# Altium footprint library Passives.PcbLib: 62 footprints (part 3 of 4)
Each footprint in its own frame and in the unit in brackets; x right, y up, seen from the top. Pads: shape width x height; smd on the part's side, far side on the other; paste and mask are expansions set on the pad; w line width, h text height; cw(c..) or ccw(c..) is an arc to the next point about the centre after c.
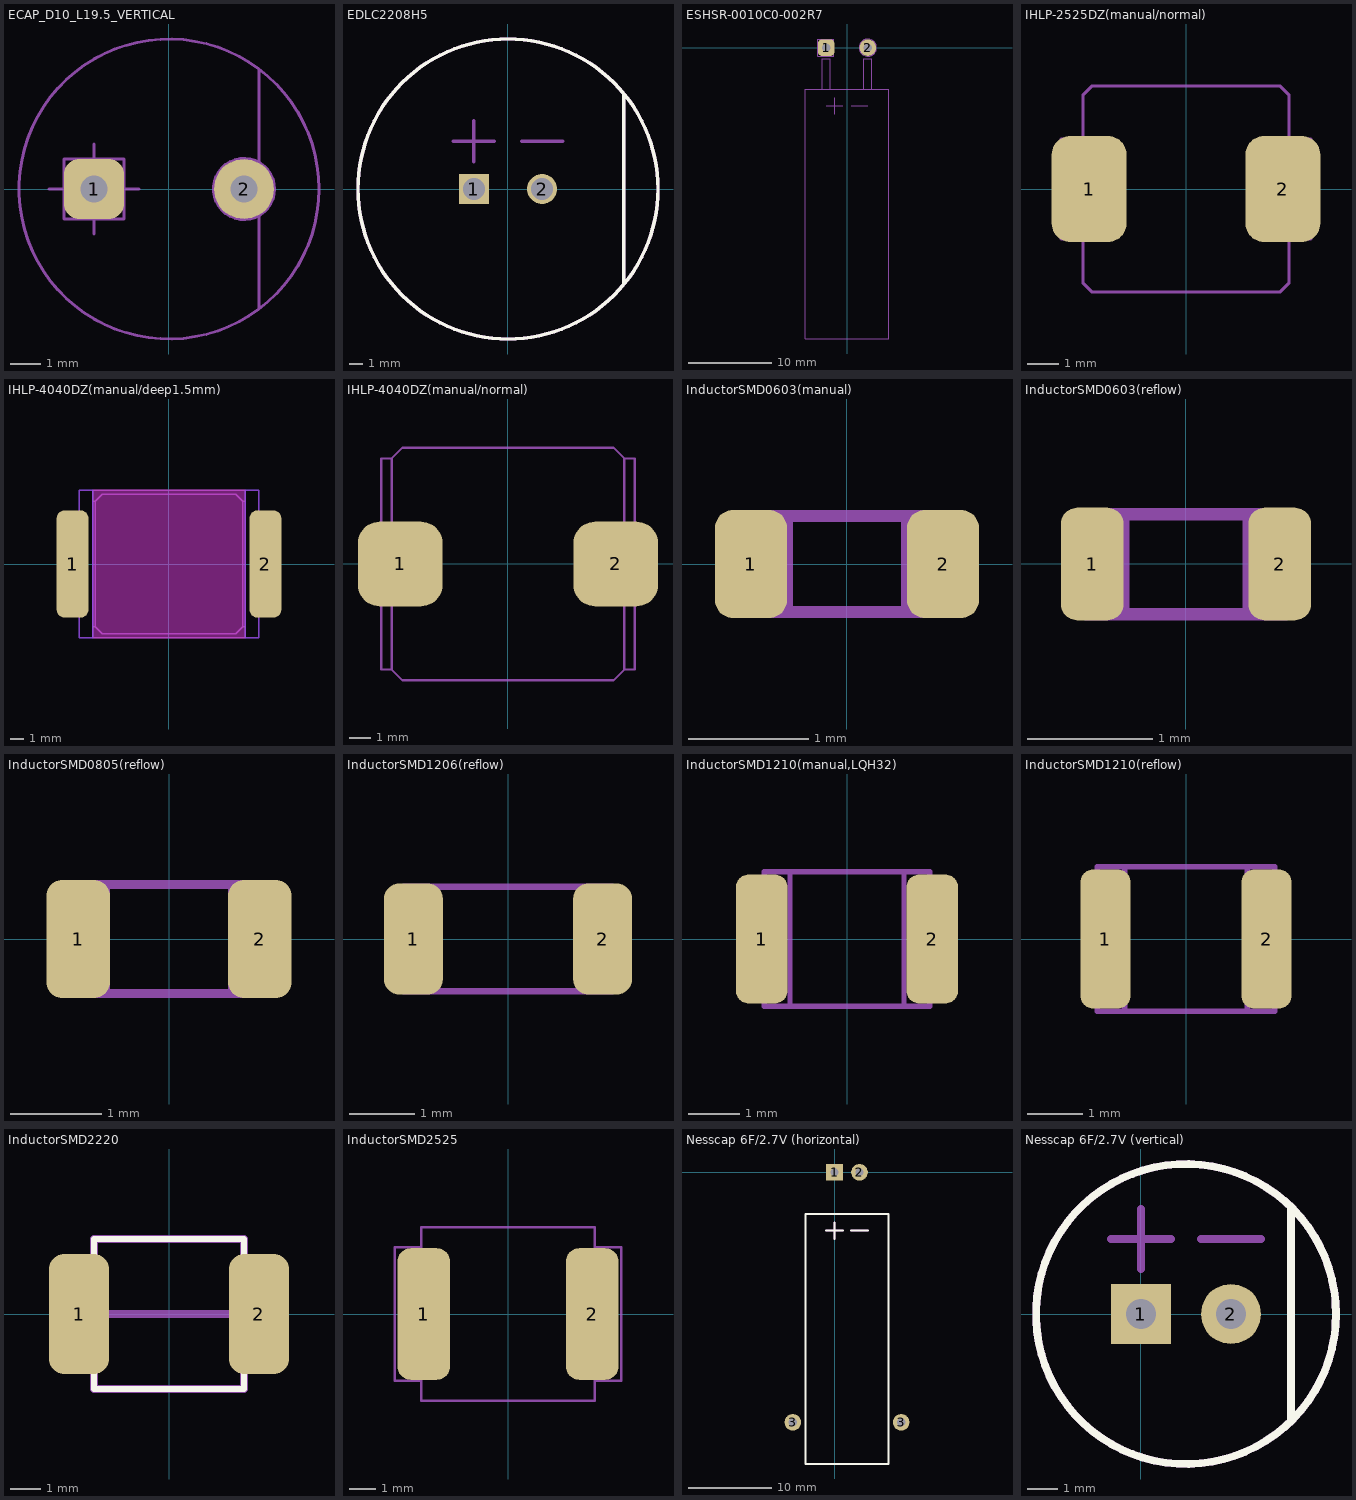
[diagram p2: the footprints below, top view; thin cyan lines are the x and y axes]

## ECAP_D10_L19.5_VERTICAL [mm]
height 19.5
pads (2):
  rrect50% 2x2 hole 0.9: 1(-2.5,0)
  round 2 hole 0.9: 2(2.5,0)
Mechanical 1:
  circle w0.1: c0,0 r5
  lines w0.1: -4,0 -1,0 ; -2.5,-1.5 -2.5,1.5 ; 3,-4 3,4
Mechanical 4:
  circle w0.1: c2.5,0 r1.02
  lines w0.1: -3.5,-1 -3.5,1 -1.5,1 -1.5,-1 -3.5,-1
Mechanical 13:
  text ".Designator" at -2,1.5 h1
Mechanical 14:
  text ".Comment" at -2,1.5 h1
3D body: height 19.5, standoff 0, extent -4.98,-5 4.98,4.98
3D body: height 19.6, standoff 19, extent 3.5,-3 4.5,3

## EDLC2208H5 [mm]
pads (2):
  rect 2.2x2.2 hole 1.6: 1(-2.5,0)
  round 2.2 hole 1.6: 2(2.5,0)
Top Overlay:
  circle w0.254: c0,0 r11
  lines w0.254: 8.5,-7 8.5,7
Mechanical 1:
  circle w0.254: c0,0 r11
  lines w0.254: -4,3.5 -1,3.5 ; -2.5,2 -2.5,5 ; 1,3.5 4,3.5 ; 8.5,-7 8.5,7
3D body: height 9, standoff 0.5, extent -11,-11 10.913,10.957

## ESHSR-0010C0-002R7 [mm]
pads (2):
  rrect50% 2x2 hole 1: 1(-2.5,0)
  round 2 hole 1: 2(2.5,0)
Mechanical 1:
  circle w0.1: c2.48,0 r1.02
  lines w0.1: -3,-5 -3,-1.3 -2,-1.3 -2,-5 ; -2.5,-7 -0.5,-7 ; -1.5,-8 -1.5,-6 ; 0.5,-7 2.5,-7 ; 2,-5 2,-1.3 3,-1.3 3,-5 ; -5,-35 -5,-5 5,-5 5,-35 -5,-35 ; -3.5,-1 -1.6,-1 -1.6,1 -3.5,1 -3.5,-1
Mechanical 4:
  circle w0.1: c2.5,0 r1.044
  lines w0.1: -3.5,-1 -1.6,-1 -1.6,1 -3.5,1 -3.5,-1
3D body: height 6, standoff 4, extent -5.1,-35.1 -4,-4.9
3D body: height 9.99, standoff 0.01, extent -5,-35 4.961,-5

## IHLP-2525DZ(manual/normal) [mm]
pads (2):
  rrect50% 2.4x3.4 smd: 1(-3.1,0) 2(3.1,0)
Mechanical 1:
  lines w0.1: -3.3,-1.6 -4,-1.6 -4,1.5 -4,1.6 -3.3,1.6 ; 3.3,-1.6 4,-1.6 4,1.6 3.3,1.6 ; -3.3,-3 -3,-3.3 3,-3.3 3.3,-3 3.3,3 3,3.3 -3,3.3 -3.3,3 -3.3,-3
Mechanical 13:
  text ".Designator" at -2.5,4.1 h1
3D body: height 3, standoff 0.5, extent -3.3,-3.3 3.3,3.3
3D body: height 1.5, standoff 0, extent -3.6,-1.6 -2,1.6
3D body: height 1.5, standoff 0, extent 2,-1.6 3.6,1.6

## IHLP-4040DZ(manual/deep1.5mm) [mm]
pads (2):
  rrect50% 2.4x8 smd: 1(-7.2,0) 2(7.2,0)
Bottom Layer keep-out:
  lines w0.1: -6.7,-5.5 -5.7,-5.5 -5.7,5.5 -6.7,5.5 -6.7,-5.5 ; 5.7,-5.5 5.7,5.5 6.7,5.5 6.7,-5.5 5.7,-5.5
Keep-Out Layer:
  board cut-out: -5.7,5.5 5.7,5.5 5.7,-5.5 -5.7,-5.5
  lines w0.1: -5.7,-5.5 5.7,-5.5 5.7,5.5 -5.7,5.5 -5.7,-5.5
Mechanical 1:
  lines w0.1: -5.5,-4.7 -5.5,4.7 ; -5.5,-4.7 -5,-5.2 5,-5.2 5.5,-4.7 ; -5.5,-4.7 -5.7,-4.7 -5.7,4.7 -5.5,4.7 ; -5.5,4.7 -5,5.2 5,5.2 5.5,4.7 ; 5.5,-4.7 5.5,4.7 ; 5.5,-4.7 5.7,-4.7 5.7,4.7 5.5,4.7
Mechanical 4:
  lines w0.1: -5.7,-5.5 5.7,-5.5 5.7,5.5 -5.7,5.5 -5.7,-5.5
Mechanical 13:
  text ".Designator" at -2.5,4.1 h1
3D body: height 2, standoff 0, extent 5.5,-4 5.7,4
3D body: height 2, standoff 0, extent -5.7,-4 -5.5,4
3D body: height 2.5, standoff -1, extent -5.5,-5.2 5.5,5.2
3D body: height 2, standoff -1.5, extent -5.7,-2 -3,2
3D body: height 2, standoff -1.5, extent 3,-2 5.7,2

## IHLP-4040DZ(manual/normal) [mm]
pads (2):
  rrect50% 4x4 smd: 1(-5.1,0) 2(5.1,0)
Mechanical 1:
  lines w0.1: -6,-5 -6,5 -5.5,5 ; -6,-5 -6,-5 ; -6,-5 -5.5,-5 ; -5.5,-5 -5,-5.5 5,-5.5 5.5,-5 ; -5.5,-5 -5.5,5 ; -5.5,5 -5,5.5 5,5.5 5.5,5 ; 5.5,-5 6,-5 6,5 5.5,5 ; 5.5,-5 5.5,5
Mechanical 13:
  text ".Designator" at -2.5,4.1 h1
3D body: height 2, standoff 0, extent 3,-2 6,2
3D body: height 2, standoff 0, extent -6,-2 -3,2
3D body: height 4, standoff 0.5, extent -5.5,-5.5 5.5,5.5

## InductorSMD0603(manual) [mm]
height 0.45
pads (2):
  rrect50% 0.6x0.9 smd: 1(-0.8,0) 2(0.8,0)
Mechanical 1:
  lines w0.1: -0.5,-0.4 -0.5,0.4 ; 0.5,-0.4 0.5,0.4 ; -0.8,-0.4 -0.8,0.4 0.8,0.4 0.8,-0.4 -0.8,-0.4
Mechanical 13:
  text ".Designator" at -0.9,-0.3 h1
3D body: height 0.45, standoff 0, extent -0.8,-0.4 -0.6,0.4
3D body: height 0.45, standoff 0, extent 0.6,-0.4 0.8,0.4
3D body: height 0.45, standoff 0, extent -0.6,-0.4 0.6,0.4

## InductorSMD0603(reflow) [mm]
height 0.45
pads (2):
  rrect50% 0.5x0.9 smd: 1(-0.75,0) 2(0.75,0)
Mechanical 1:
  lines w0.1: -0.5,-0.4 -0.5,0.4 ; 0.5,-0.4 0.5,0.4 ; -0.8,-0.4 0.8,-0.4 0.8,0.4 -0.8,0.4 -0.8,-0.4
Mechanical 13:
  text ".Designator" at -0.9,0.7 h1
3D body: height 0.45, standoff 0, extent -0.8,-0.4 -0.5,0.4
3D body: height 0.45, standoff 0, extent -0.5,-0.4 0.5,0.4
3D body: height 0.45, standoff 0, extent 0.5,-0.4 0.8,0.4

## InductorSMD0805(reflow) [mm]
height 0.45
pads (2):
  rrect50% 0.7x1.3 smd: 1(-1,0) 2(1,0)
Mechanical 1:
  lines w0.1: -0.7,-0.6 -0.7,0.6 ; 0.7,-0.6 0.7,0.6 ; -1,-0.6 -1,0.6 1,0.6 1,-0.6 -1,-0.6
Mechanical 13:
  text ".Designator" at -1.7,1.5 h1
3D body: height 0.6, standoff 0, extent -1,-0.65 1,0.65

## InductorSMD1206(reflow) [mm]
height 0.6
pads (2):
  rrect50% 0.9x1.7 smd: 1(-1.45,0) 2(1.45,0)
Mechanical 1:
  lines w0.1: -1.1,-0.8 -1.1,0.8 ; 1.1,-0.8 1.1,0.8 ; -1.6,-0.8 1.6,-0.8 1.6,0.8 -1.6,0.8 -1.6,-0.8
Mechanical 13:
  text ".Designator" at -1.3,1.8 h1
3D body: height 0.6, standoff 0, extent -1.6,-0.8 1.6,0.8

## InductorSMD1210(manual,LQH32) [mm]
height 0.6
pads (2):
  rrect50% 1x2.5 smd: 1(-1.65,0) 2(1.65,0)
Mechanical 1:
  lines w0.1: -1.1,-1.3 -1.1,1.3 ; 1.1,-1.3 1.1,1.3 ; -1.6,-1.3 1.6,-1.3 1.6,1.3 -1.6,1.3 -1.6,-1.3
Mechanical 13:
  text ".Designator" at 0.4,-1 h1
Mechanical 14:
  text ".Comment" at 0.3,-1 h1
3D body: height 1.5, standoff 0.5, extent -1,-1 1,1
3D body: height 0.5, standoff 0, extent -1.4,-1.3 1.4,1.3
3D body: height 0.5, standoff 0, extent -1.6,-1.3 -1.4,1.3
3D body: height 0.5, standoff 0, extent 1.4,-1.3 1.6,1.3
3D body: height 2, standoff 1.5, extent -1.4,-1.3 1.4,1.3

## InductorSMD1210(reflow) [mm]
height 0.6
pads (2):
  rrect50% 0.9x2.5 smd: 1(-1.45,0) 2(1.45,0)
Mechanical 1:
  lines w0.1: -1.1,-1.3 -1.1,1.3 ; 1.1,-1.3 1.1,1.3 ; -1.6,-1.3 -1.6,1.3 1.6,1.3 1.6,-1.3 -1.6,-1.3
Mechanical 13:
  text ".Designator" at 0.3,-1 h1
3D body: height 2, standoff 0, extent -1.6,-1.3 1.6,1.3

## InductorSMD2220 [mm]
height 0.6
pads (2):
  rrect50% 2x4 smd: 1(-3,0) 2(3,0)
Top Overlay:
  lines w0.2: -2.5,-2.5 2.5,-2.5 2.5,2.5 -2.5,2.5 -2.5,-2.5
Mechanical 1:
  lines w0.254: -2.5,0 2.5,0 ; -2.5,-2.5 2.5,-2.5 2.5,2.5 -2.5,2.5 -2.5,-2.5
3D body: height 5, standoff 0.1, extent -2.5,-2.5 2.5,2.5

## InductorSMD2525 [mm]
height 0.6
pads (2):
  rrect50% 2x5 smd: 1(-3.2,0) 2(3.2,0)
Mechanical 1:
  lines w0.1: -3.302,-2.54 -4.3,-2.54 -4.3,2.54 -3.302,2.54 ; 3.302,-2.54 4.3,-2.54 4.3,2.54 3.302,2.54 ; -3.302,-3.302 3.302,-3.302 3.302,3.302 -3.302,3.302 -3.302,-3.302
Mechanical 13:
  text ".Designator" at -1.778,-0.508 h1
3D body: height 5, standoff 1, extent -3.2,-3.2 3.2,3.2
3D body: height 1, standoff 0, extent -2.5,-2.5 2.5,2.5

## Nesscap 6F/2.7V (horizontal) [mm]
pads (4):
  rect 2x2 hole 1: 1(0,0)
  round 2 hole 1: 2(3,0) 3(-5,-30) 3(8,-30)
Top Overlay:
  lines w0.254: -1,-7 1,-7 ; 0,-8 0,-6 ; 2,-7 4,-7 ; -3.5,-35 -3.5,-5 6.5,-5 6.5,-35 -3.5,-35
Mechanical 1:
  lines w0.254: -1,-7 1,-7 ; 0,-8 0,-6 ; 2,-7 4,-7
3D body: height 9.99, standoff 0.01, extent -3.5,-35 6.461,-5

## Nesscap 6F/2.7V (vertical) [mm]
pads (2):
  rect 2x2 hole 1: 1(0,0)
  round 2 hole 1: 2(3,0)
Top Overlay:
  circle w0.254: c1.5,0 r5
  lines w0.254: 5,-3.5 5,3.5
Mechanical 1:
  circle w0.254: c1.5,0 r5
  lines w0.254: -1,2.5 1,2.5 ; 0,1.5 0,3.5 ; 2,2.5 4,2.5 ; 5,-3.5 5,3.5
3D body: height 30, standoff 0, extent -3.5,-5 6.461,4.98